# EAGLE library part 418121160804 (library Wurth_Elektronik_Electromechanic_Switch_rev15d)
WS-IC-2.54 mm small compact SMD Dip Switch with top tape,8 pins,4 poles
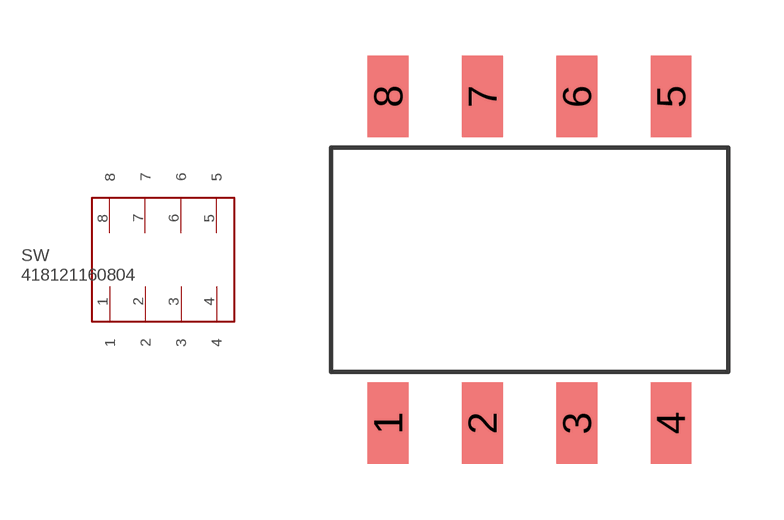
[diagram p32: symbol with the pads of 418121160804; footprint 418121160804]

Designator prefix SW

## 418121160804  [418121160804]
1  1
2  2
3  3
4  4
5  5
6  6
7  7
8  8

## Footprint 418121160804 (pad centres in mm)
WS-IC-2.54 mm small compact SMD Dip Switch with top tape,8 pins,4 poles
smd 1.1 x 2.2: 1 -3.81,-4.4; 2 -1.27,-4.4; 3 1.27,-4.4; 4 3.81,-4.4; 5 3.81,4.4; 6 1.27,4.4; 7 -1.27,4.4; 8 -3.81,4.4